# EAGLE library part TL064ACDT (library ICs)
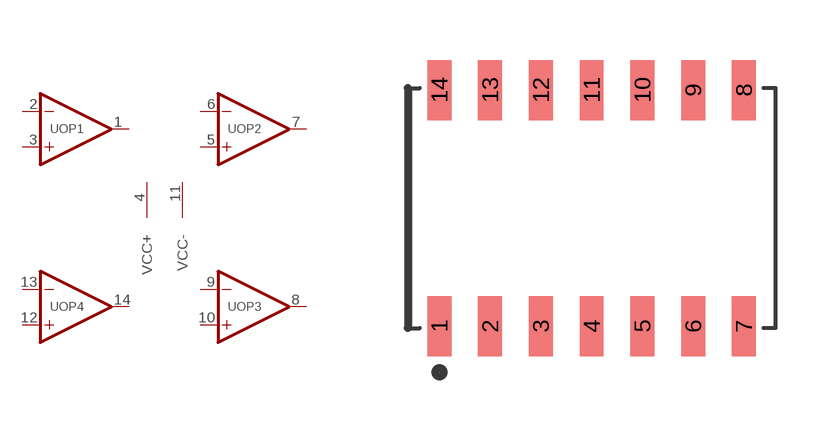
[diagram p20: symbol with the pads of SOIC-14; footprint SOIC-14]

Designator prefix -; gates OP1=OPAMP OP2=OPAMP OP3=OPAMP OP4=OPAMP G$5=OPAMP_PWR

## TL064ACDT  [SOIC-14]
1  OP1:OUT  out
2  OP1:IN-  in
3  OP1:IN+  in
4  G$5:VCC+
5  OP2:IN+  in
6  OP2:IN-  in
7  OP2:OUT  out
8  OP3:OUT  out
9  OP3:IN-  in
10  OP3:IN+  in
11  G$5:VCC-
12  OP4:IN+  in
13  OP4:IN-  in
14  OP4:OUT  out

## Footprint SOIC-14 (pad centres in mm)
SOIC - 14 Specifications: Pin count:14
smd 0.6 x 1.5: 1 -3.81,-2.95; 2 -2.54,-2.95; 3 -1.27,-2.95; 4 0,-2.95; 5 1.27,-2.95; 6 2.54,-2.95; 7 3.81,-2.95; 8 3.81,2.95; 9 2.54,2.95; 10 1.27,2.95; 11 0,2.95; 12 -1.27,2.95; 13 -2.54,2.95; 14 -3.81,2.95